# Altium footprint library Terminal_Blocks_Pluggable PCB_3.81mm.PcbLib: 22 footprints (part 1 of 2)
Each footprint in its own frame and in the unit in brackets; x right, y up, seen from the top. Pads: shape width x height; smd on the part's side, far side on the other; paste and mask are expansions set on the pad; w line width, h text height; cw(c..) or ccw(c..) is an arc to the next point about the centre after c.
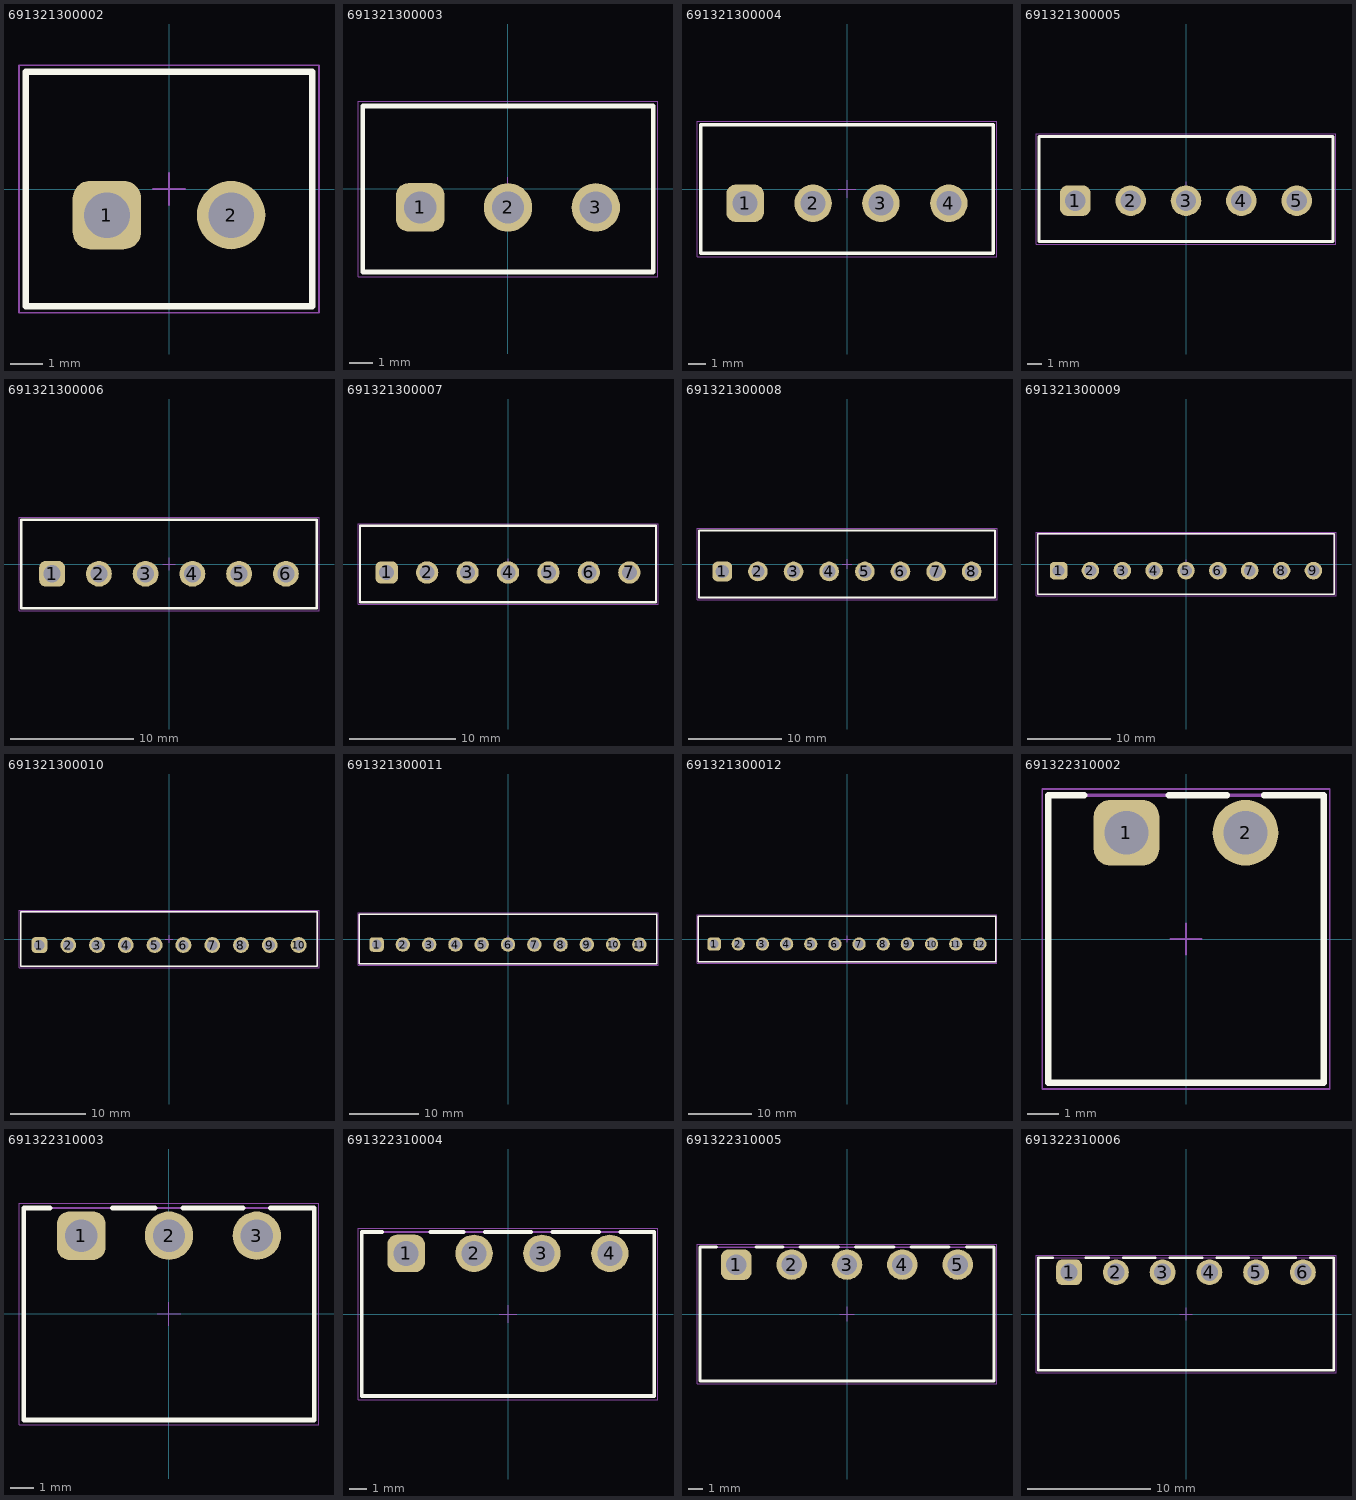
[diagram p0: the footprints below, top view; thin cyan lines are the x and y axes]

## 691321300002 [mm] "Vertical PCB Header, pitch 3.81mm, 02p"
height 9.2
pads (2):
  rrect50% 2.1x2.1 hole 1.4: 1(-1.905,-0.8)
  round 2.1 hole 1.4: 2(1.905,-0.8)
Top Overlay:
  lines w0.2: -4.405,-3.6 -4.405,3.6 4.405,3.6 4.405,-3.6 -4.405,-3.6
Top Designator:
  text ".Designator" at -7.498,-0.5 h1.5
Top Component Outline:
  lines w0.1: -4.405,-3.6 4.405,-3.6 4.405,3.6 -4.405,3.6 -4.405,-3.6
Top 3D Body:
  lines w0.1: -4.405,-3.6 -4.405,3.6 4.405,3.6 4.405,-3.6 -4.405,-3.6
Top Courtyard:
  lines w0.05: -4.605,-3.8 4.605,-3.8 4.605,3.8 -4.605,3.8 -4.605,-3.8
Top Component Center:
  lines w0.05: -0.5,0 0.5,0 ; 0,-0.5 0,0.5
3D body "691321300002.stp": height 9.25, standoff -3.45, extent -4.405,-3.6 4.405,3.6

## 691321300003 [mm] "Vertical PCB Header, pitch 3.81mm, 03p"
height 9.2
pads (3):
  rrect50% 2.1x2.1 hole 1.4: 1(-3.81,-0.8)
  round 2.1 hole 1.4: 2(0,-0.8) 3(3.81,-0.8)
Top Overlay:
  lines w0.2: -6.31,-3.6 6.31,-3.6 6.31,3.6 -6.31,3.6 -6.31,-3.6
Top Designator:
  text ".Designator" at -7.498,-0.5 h1.5
Top Component Outline:
  lines w0.1: -6.31,-3.6 -6.31,3.6 6.31,3.6 6.31,-3.6 -6.31,-3.6
Top 3D Body:
  lines w0.1: -6.31,-3.6 6.31,-3.6 6.31,3.6 -6.31,3.6 -6.31,-3.6
Top Courtyard:
  lines w0.05: -6.51,-3.8 -6.51,3.8 6.51,3.8 6.51,-3.8 -6.51,-3.8
Top Component Center:
  lines w0.05: -0.5,0 0.5,0 ; 0,-0.5 0,0.5
3D body "691321300003.stp": height 9.25, standoff -3.45, extent -6.31,-3.6 6.31,3.6

## 691321300004 [mm] "Vertical PCB Header, pitch 3.81mm, 04p"
height 9.2
pads (4):
  rrect50% 2.1x2.1 hole 1.4: 1(-5.715,-0.8)
  round 2.1 hole 1.4: 2(-1.905,-0.8) 3(1.905,-0.8) 4(5.715,-0.8)
Top Overlay:
  lines w0.2: -8.215,-3.6 8.215,-3.6 8.215,3.6 -8.215,3.6 -8.215,-3.6
Top Designator:
  text ".Designator" at -7.498,-0.5 h1.5
Top Component Outline:
  lines w0.1: -8.215,-3.6 -8.215,3.6 8.215,3.6 8.215,-3.6 -8.215,-3.6
Top 3D Body:
  lines w0.1: -8.215,-3.6 8.215,-3.6 8.215,3.6 -8.215,3.6 -8.215,-3.6
Top Courtyard:
  lines w0.05: -8.415,-3.8 -8.415,3.8 8.415,3.8 8.415,-3.8 -8.415,-3.8
Top Component Center:
  lines w0.05: -0.5,0 0.5,0 ; 0,-0.5 0,0.5
3D body "691321300004.stp": height 9.25, standoff -3.45, extent -8.215,-3.6 8.215,3.6

## 691321300005 [mm] "Vertical PCB Header, pitch 3.81mm, 05p"
height 9.2
pads (5):
  rrect50% 2.1x2.1 hole 1.4: 1(-7.62,-0.8)
  round 2.1 hole 1.4: 2(-3.81,-0.8) 3(0,-0.8) 4(3.81,-0.8) 5(7.62,-0.8)
Top Overlay:
  lines w0.2: -10.12,-3.6 10.12,-3.6 10.12,3.6 -10.12,3.6 -10.12,-3.6
Top Designator:
  text ".Designator" at -7.498,-0.5 h1.5
Top Component Outline:
  lines w0.1: -10.12,-3.6 -10.12,3.6 10.12,3.6 10.12,-3.6 -10.12,-3.6
Top 3D Body:
  lines w0.1: -10.12,-3.6 10.12,-3.6 10.12,3.6 -10.12,3.6 -10.12,-3.6
Top Courtyard:
  lines w0.05: -10.32,-3.8 -10.32,3.8 10.32,3.8 10.32,-3.8 -10.32,-3.8
Top Component Center:
  lines w0.05: -0.5,0 0.5,0 ; 0,-0.5 0,0.5
3D body "691321300005.stp": height 9.25, standoff -3.45, extent -10.12,-3.6 10.12,3.6

## 691321300006 [mm] "Vertical PCB Header, pitch 3.81mm, 06p"
height 9.2
pads (6):
  rrect50% 2.1x2.1 hole 1.4: 1(-9.525,-0.8)
  round 2.1 hole 1.4: 2(-5.715,-0.8) 3(-1.905,-0.8) 4(1.905,-0.8) 5(5.715,-0.8) 6(9.525,-0.8)
Top Overlay:
  lines w0.2: -12.025,-3.6 12.025,-3.6 12.025,3.6 -12.025,3.6 -12.025,-3.6
Top Designator:
  text ".Designator" at -7.498,-0.5 h1.5
Top Component Outline:
  lines w0.1: -12.025,-3.6 -12.025,3.6 12.025,3.6 12.025,-3.6 -12.025,-3.6
Top 3D Body:
  lines w0.1: -12.025,-3.6 12.025,-3.6 12.025,3.6 -12.025,3.6 -12.025,-3.6
Top Courtyard:
  lines w0.05: -12.225,-3.8 -12.225,3.8 12.225,3.8 12.225,-3.8 -12.225,-3.8
Top Component Center:
  lines w0.05: -0.5,0 0.5,0 ; 0,-0.5 0,0.5
3D body "691321300006.stp": height 9.25, standoff -3.45, extent -12.025,-3.6 12.025,3.6

## 691321300007 [mm] "Vertical PCB Header, pitch 3.81mm, 07p"
height 9.2
pads (7):
  rrect50% 2.1x2.1 hole 1.4: 1(-11.43,-0.8)
  round 2.1 hole 1.4: 2(-7.62,-0.8) 3(-3.81,-0.8) 4(0,-0.8) 5(3.81,-0.8) 6(7.62,-0.8) 7(11.43,-0.8)
Top Overlay:
  lines w0.2: -13.93,-3.6 13.93,-3.6 13.93,3.6 -13.93,3.6 -13.93,-3.6
Top Designator:
  text ".Designator" at -7.498,-0.5 h1.5
Top Component Outline:
  lines w0.1: -13.93,-3.6 -13.93,3.6 13.93,3.6 13.93,-3.6 -13.93,-3.6
Top 3D Body:
  lines w0.1: -13.93,-3.6 13.93,-3.6 13.93,3.6 -13.93,3.6 -13.93,-3.6
Top Courtyard:
  lines w0.05: -14.13,-3.8 -14.13,3.8 14.13,3.8 14.13,-3.8 -14.13,-3.8
Top Component Center:
  lines w0.05: -0.5,0 0.5,0 ; 0,-0.5 0,0.5
3D body "691321300007.stp": height 9.25, standoff -3.45, extent -13.93,-3.6 13.93,3.6

## 691321300008 [mm] "Vertical PCB Header, pitch 3.81mm, 08p"
height 9.2
pads (8):
  rrect50% 2.1x2.1 hole 1.4: 1(-13.335,-0.8)
  round 2.1 hole 1.4: 2(-9.525,-0.8) 3(-5.715,-0.8) 4(-1.905,-0.8) 5(1.905,-0.8) 6(5.715,-0.8) 7(9.525,-0.8) 8(13.335,-0.8)
Top Overlay:
  lines w0.2: -15.835,-3.6 -15.835,3.6 15.835,3.6 15.835,-3.6 -15.835,-3.6
Top Designator:
  text ".Designator" at -7.498,-0.5 h1.5
Top Component Outline:
  lines w0.1: -15.835,-3.6 15.835,-3.6 15.835,3.6 -15.835,3.6 -15.835,-3.6
Top 3D Body:
  lines w0.1: -15.835,-3.6 -15.835,3.6 15.835,3.6 15.835,-3.6 -15.835,-3.6
Top Courtyard:
  lines w0.05: -16.035,-3.8 16.035,-3.8 16.035,3.8 -16.035,3.8 -16.035,-3.8
Top Component Center:
  lines w0.05: -0.5,0 0.5,0 ; 0,-0.5 0,0.5
3D body "691321300008.stp": height 9.25, standoff -3.45, extent -15.835,-3.6 15.835,3.6

## 691321300009 [mm] "Vertical PCB Header, pitch 3.81mm, 09p"
height 9.2
pads (9):
  rrect50% 2.1x2.1 hole 1.4: 1(-15.24,-0.8)
  round 2.1 hole 1.4: 2(-11.43,-0.8) 3(-7.62,-0.8) 4(-3.81,-0.8) 5(0,-0.8) 6(3.81,-0.8) 7(7.62,-0.8) 8(11.43,-0.8) 9(15.24,-0.8)
Top Overlay:
  lines w0.2: -17.74,-3.6 -17.74,3.6 17.74,3.6 17.74,-3.6 -17.74,-3.6
Top Designator:
  text ".Designator" at -7.498,-0.5 h1.5
Top Component Outline:
  lines w0.1: -17.74,-3.6 17.74,-3.6 17.74,3.6 -17.74,3.6 -17.74,-3.6
Top 3D Body:
  lines w0.1: -17.74,-3.6 -17.74,3.6 17.74,3.6 17.74,-3.6 -17.74,-3.6
Top Courtyard:
  lines w0.05: -17.94,-3.8 17.94,-3.8 17.94,3.8 -17.94,3.8 -17.94,-3.8
Top Component Center:
  lines w0.05: -0.5,0 0.5,0 ; 0,-0.5 0,0.5
3D body "691321300009.stp": height 9.25, standoff -3.45, extent -17.74,-3.6 17.74,3.6

## 691321300010 [mm] "Vertical PCB Header, pitch 3.81mm, 10p"
height 9.2
pads (10):
  rrect50% 2.1x2.1 hole 1.4: 1(-17.145,-0.8)
  round 2.1 hole 1.4: 2(-13.335,-0.8) 3(-9.525,-0.8) 4(-5.715,-0.8) 5(-1.905,-0.8) 6(1.905,-0.8) 7(5.715,-0.8) 8(9.525,-0.8) 9(13.335,-0.8) 10(17.145,-0.8)
Top Overlay:
  lines w0.2: -19.645,-3.6 19.645,-3.6 19.645,3.6 -19.645,3.6 -19.645,-3.6
Top Designator:
  text ".Designator" at -7.498,-0.5 h1.5
Top Component Outline:
  lines w0.1: -19.645,-3.6 -19.645,3.6 19.645,3.6 19.645,-3.6 -19.645,-3.6
Top 3D Body:
  lines w0.1: -19.645,-3.6 19.645,-3.6 19.645,3.6 -19.645,3.6 -19.645,-3.6
Top Courtyard:
  lines w0.05: -19.845,-3.8 -19.845,3.8 19.845,3.8 19.845,-3.8 -19.845,-3.8
Top Component Center:
  lines w0.05: -0.5,0 0.5,0 ; 0,-0.5 0,0.5
3D body "691321300010.stp": height 9.25, standoff -3.45, extent -19.645,-3.6 19.645,3.6

## 691321300011 [mm] "Vertical PCB Header, pitch 3.81mm, 11p"
height 9.2
pads (11):
  rrect50% 2.1x2.1 hole 1.4: 1(-19.05,-0.8)
  round 2.1 hole 1.4: 2(-15.24,-0.8) 3(-11.43,-0.8) 4(-7.62,-0.8) 5(-3.81,-0.8) 6(0,-0.8) 7(3.81,-0.8) 8(7.62,-0.8) 9(11.43,-0.8) 10(15.24,-0.8) 11(19.05,-0.8)
Top Overlay:
  lines w0.2: -21.55,-3.6 21.55,-3.6 21.55,3.6 -21.55,3.6 -21.55,-3.6
Top Designator:
  text ".Designator" at -7.498,-0.5 h1.5
Top Component Outline:
  lines w0.1: -21.55,-3.6 -21.55,3.6 21.55,3.6 21.55,-3.6 -21.55,-3.6
Top 3D Body:
  lines w0.1: -21.55,-3.6 21.55,-3.6 21.55,3.6 -21.55,3.6 -21.55,-3.6
Top Courtyard:
  lines w0.05: -21.75,-3.8 -21.75,3.8 21.75,3.8 21.75,-3.8 -21.75,-3.8
Top Component Center:
  lines w0.05: -0.5,0 0.5,0 ; 0,-0.5 0,0.5
3D body "691321300011.stp": height 9.25, standoff -3.45, extent -21.55,-3.6 21.55,3.6

## 691321300012 [mm] "Vertical PCB Header, pitch 3.81mm, 12p"
height 9.2
pads (12):
  rrect50% 2.1x2.1 hole 1.4: 1(-20.955,-0.8)
  round 2.1 hole 1.4: 2(-17.145,-0.8) 3(-13.335,-0.8) 4(-9.525,-0.8) 5(-5.715,-0.8) 6(-1.905,-0.8) 7(1.905,-0.8) 8(5.715,-0.8) 9(9.525,-0.8) 10(13.335,-0.8) 11(17.145,-0.8) 12(20.955,-0.8)
Top Overlay:
  lines w0.2: -23.455,-3.6 -23.455,3.6 23.455,3.6 23.455,-3.6 -23.455,-3.6
Top Designator:
  text ".Designator" at -7.498,-0.5 h1.5
Top Component Outline:
  lines w0.1: -23.455,-3.6 23.455,-3.6 23.455,3.6 -23.455,3.6 -23.455,-3.6
Top 3D Body:
  lines w0.1: -23.455,-3.6 -23.455,3.6 23.455,3.6 23.455,-3.6 -23.455,-3.6
Top Courtyard:
  lines w0.05: -23.655,-3.8 23.655,-3.8 23.655,3.8 -23.655,3.8 -23.655,-3.8
Top Component Center:
  lines w0.05: -0.5,0 0.5,0 ; 0,-0.5 0,0.5
3D body "691321300012.stp": height 9.25, standoff -3.45, extent -23.455,-3.6 23.455,3.6

## 691322310002 [mm] "Horizontal PCB Header, pitch 3.81mm, 02p"
height 7
pads (2):
  rrect50% 2.1x2.1 hole 1.4: 1(-1.905,3.4)
  round 2.1 hole 1.4: 2(1.905,3.4)
Top Overlay:
  lines w0.2: -3.255,4.6 -4.405,4.6 -4.405,-4.6 4.405,-4.6 4.405,4.6 2.495,4.6 ; -0.555,4.6 1.315,4.6
Top Designator:
  text ".Designator" at -7.498,-0.5 h1.5
Top Component Outline:
  lines w0.1: -4.405,-4.6 4.405,-4.6 4.405,4.6 -4.405,4.6 -4.405,-4.6
Top 3D Body:
  lines w0.1: -4.405,-4.6 -4.405,4.6 4.405,4.6 4.405,-4.6 -4.405,-4.6
Top Courtyard:
  lines w0.05: -4.605,-4.8 4.605,-4.8 4.605,4.8 -4.605,4.8 -4.605,-4.8
Top Component Center:
  lines w0.05: -0.5,0 0.5,0 ; 0,-0.5 0,0.5
3D body "691322310002.stp": height 7.25, standoff -3.45, extent -4.405,-4.6 4.405,4.6

## 691322310003 [mm] "Horizontal PCB Header, pitch 3.81mm, 03p"
height 7
pads (3):
  rrect50% 2.1x2.1 hole 1.4: 1(-3.81,3.4)
  round 2.1 hole 1.4: 2(0,3.4) 3(3.81,3.4)
Top Overlay:
  lines w0.2: -5.16,4.6 -6.31,4.6 -6.31,-4.6 6.31,-4.6 6.31,4.6 4.4,4.6 ; -2.46,4.6 -0.59,4.6 ; 0.59,4.6 3.22,4.6
Top Designator:
  text ".Designator" at -7.498,-0.5 h1.5
Top Component Outline:
  lines w0.1: -6.31,-4.6 6.31,-4.6 6.31,4.6 -6.31,4.6 -6.31,-4.6
Top 3D Body:
  lines w0.1: -6.31,-4.6 -6.31,4.6 6.31,4.6 6.31,-4.6 -6.31,-4.6
Top Courtyard:
  lines w0.05: -6.51,-4.8 6.51,-4.8 6.51,4.8 -6.51,4.8 -6.51,-4.8
Top Component Center:
  lines w0.05: -0.5,0 0.5,0 ; 0,-0.5 0,0.5
3D body "691322310003.stp": height 7.25, standoff -3.45, extent -6.31,-4.6 6.31,4.6

## 691322310004 [mm] "Horizontal PCB Header, pitch 3.81mm, 04p"
height 7
pads (4):
  rrect50% 2.1x2.1 hole 1.4: 1(-5.715,3.4)
  round 2.1 hole 1.4: 2(-1.905,3.4) 3(1.905,3.4) 4(5.715,3.4)
Top Overlay:
  lines w0.2: -7.065,4.6 -8.215,4.6 -8.215,-4.6 8.215,-4.6 8.215,4.6 6.305,4.6 ; -4.365,4.6 -2.495,4.6 ; -1.315,4.6 1.315,4.6 ; 2.495,4.6 5.125,4.6
Top Designator:
  text ".Designator" at -7.498,-0.5 h1.5
Top Component Outline:
  lines w0.1: -8.215,-4.6 -8.215,4.6 8.215,4.6 8.215,-4.6 -8.215,-4.6
Top 3D Body:
  lines w0.1: -8.215,-4.6 8.215,-4.6 8.215,4.6 -8.215,4.6 -8.215,-4.6
Top Courtyard:
  lines w0.05: -8.415,-4.8 -8.415,4.8 8.415,4.8 8.415,-4.8 -8.415,-4.8
Top Component Center:
  lines w0.05: -0.5,0 0.5,0 ; 0,-0.5 0,0.5
3D body "691322310004.stp": height 7.25, standoff -3.45, extent -8.215,-4.6 8.215,4.6

## 691322310005 [mm] "Horizontal PCB Header, pitch 3.81mm, 05p"
height 7
pads (5):
  rrect50% 2.1x2.1 hole 1.4: 1(-7.62,3.4)
  round 2.1 hole 1.4: 2(-3.81,3.4) 3(0,3.4) 4(3.81,3.4) 5(7.62,3.4)
Top Overlay:
  lines w0.2: -8.97,4.6 -10.12,4.6 -10.12,-4.6 10.12,-4.6 10.12,4.6 8.21,4.6 ; -6.27,4.6 -4.4,4.6 ; -3.22,4.6 -0.59,4.6 ; 0.59,4.6 3.22,4.6 ; 4.4,4.6 7.03,4.6
Top Designator:
  text ".Designator" at -7.498,-0.5 h1.5
Top Component Outline:
  lines w0.1: -10.12,-4.6 -10.12,4.6 10.12,4.6 10.12,-4.6 -10.12,-4.6
Top 3D Body:
  lines w0.1: -10.12,-4.6 10.12,-4.6 10.12,4.6 -10.12,4.6 -10.12,-4.6
Top Courtyard:
  lines w0.05: -10.32,-4.8 -10.32,4.8 10.32,4.8 10.32,-4.8 -10.32,-4.8
Top Component Center:
  lines w0.05: -0.5,0 0.5,0 ; 0,-0.5 0,0.5
3D body "691322310005.stp": height 7.25, standoff -3.45, extent -10.12,-4.6 10.12,4.6

## 691322310006 [mm] "Horizontal PCB Header, pitch 3.81mm, 06p"
height 7
pads (6):
  rrect50% 2.1x2.1 hole 1.4: 1(-9.525,3.4)
  round 2.1 hole 1.4: 2(-5.715,3.4) 3(-1.905,3.4) 4(1.905,3.4) 5(5.715,3.4) 6(9.525,3.4)
Top Overlay:
  lines w0.2: -10.875,4.6 -12.025,4.6 -12.025,-4.6 12.025,-4.6 12.025,4.6 10.115,4.6 ; -8.175,4.6 -6.305,4.6 ; -5.125,4.6 -2.495,4.6 ; -1.315,4.6 1.315,4.6 ; 2.495,4.6 5.125,4.6 ; 6.305,4.6 8.935,4.6
Top Designator:
  text ".Designator" at -7.498,-0.5 h1.5
Top Component Outline:
  lines w0.1: -12.025,-4.6 12.025,-4.6 12.025,4.6 -12.025,4.6 -12.025,-4.6
Top 3D Body:
  lines w0.1: -12.025,-4.6 -12.025,4.6 12.025,4.6 12.025,-4.6 -12.025,-4.6
Top Courtyard:
  lines w0.05: -12.225,-4.8 12.225,-4.8 12.225,4.8 -12.225,4.8 -12.225,-4.8
Top Component Center:
  lines w0.05: -0.5,0 0.5,0 ; 0,-0.5 0,0.5
3D body "691322310006.stp": height 7.25, standoff -3.45, extent -12.025,-4.6 12.025,4.6